# Altium integrated library Linear Technology Power Management Hot Swap Controllers.IntLib: 992 symbols (part 27 of 93)
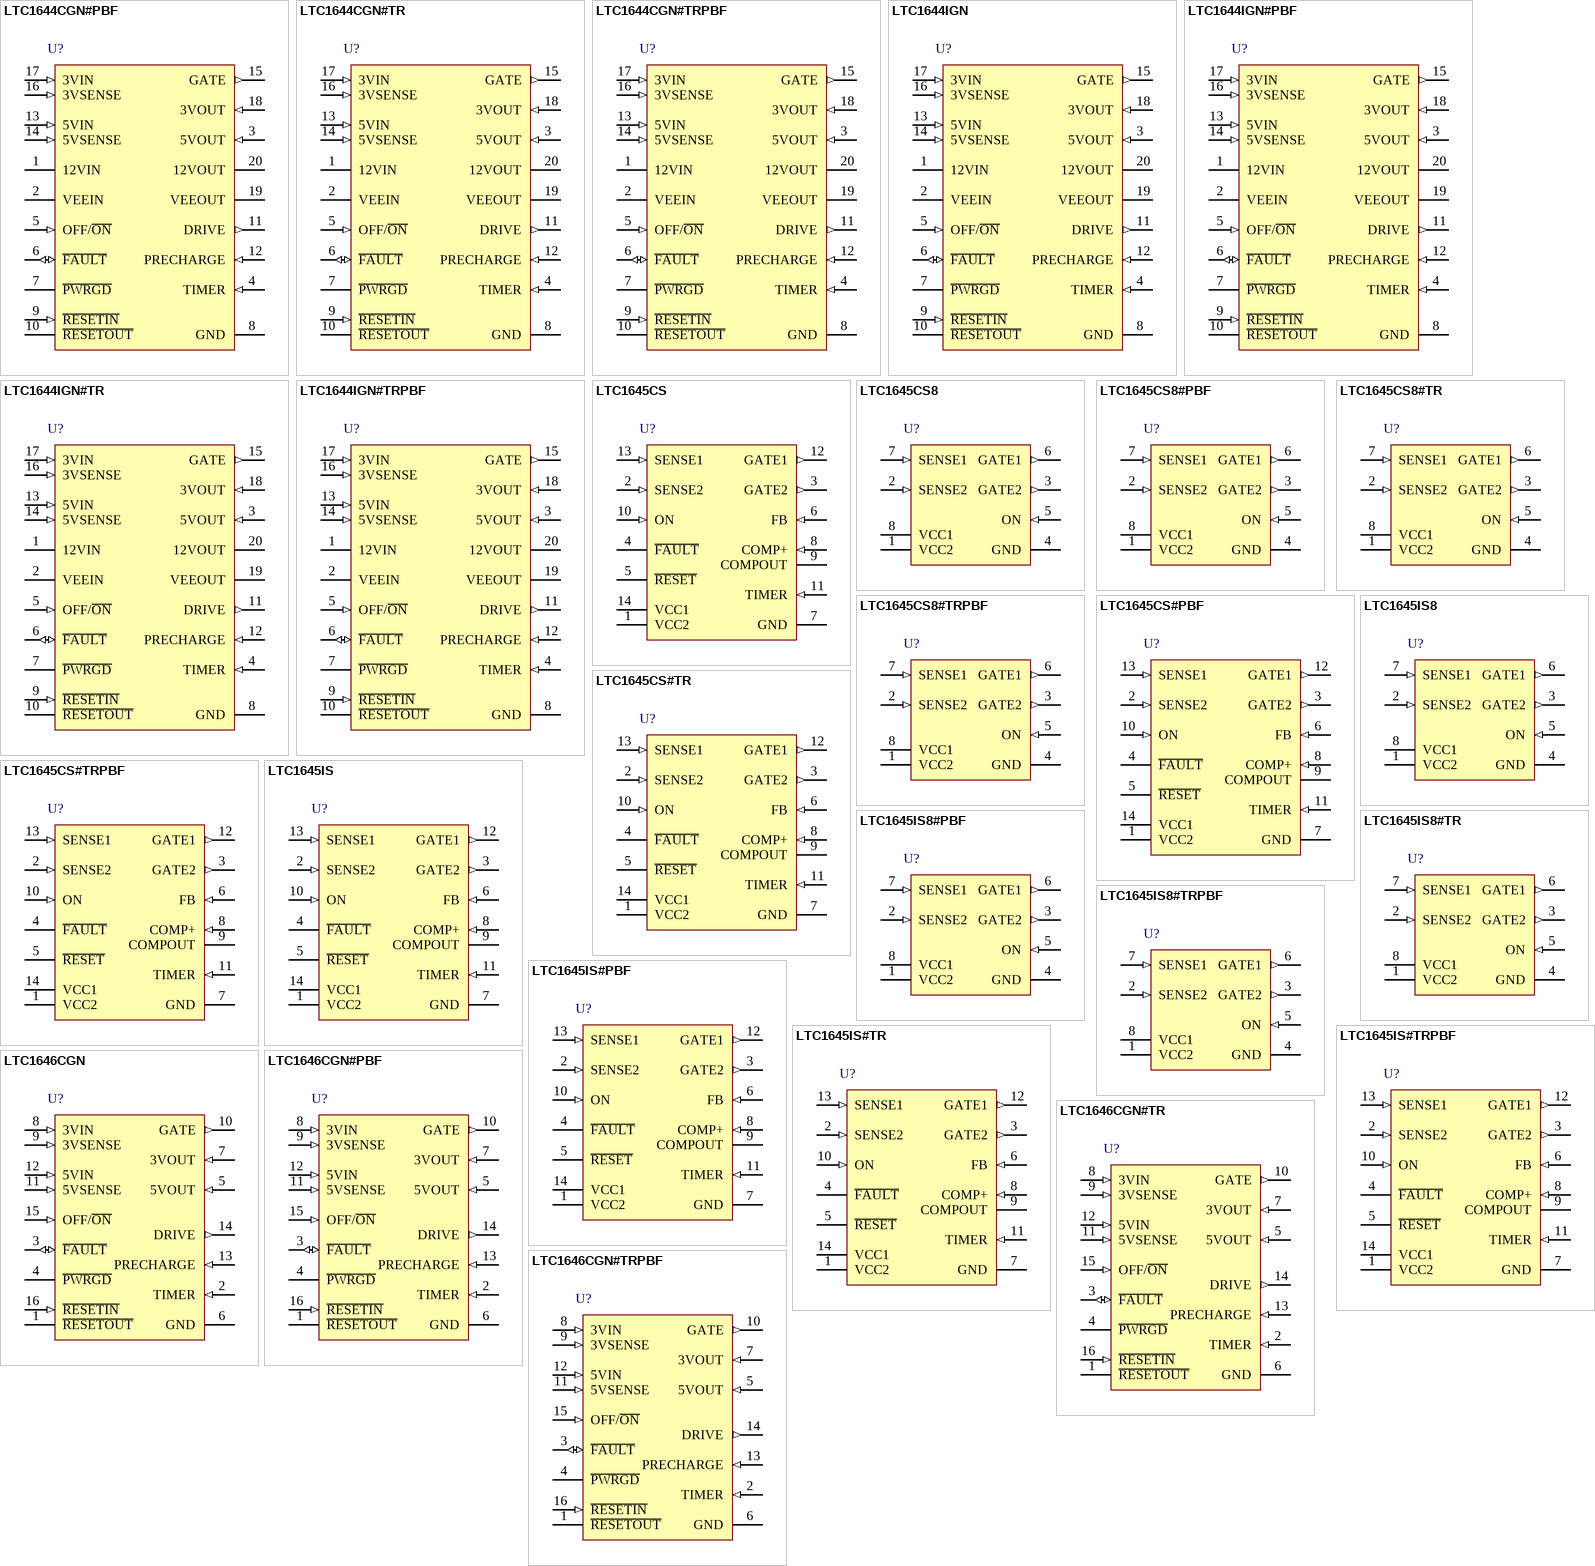
[diagram p63: symbols LTC1644CGN#PBF to LTC1646CGN#TRPBF]

## LTC1646CGN#TR
designator U?
CompactPCI Dual Hot Swap Controller, 2.7 to 7 V Vin, 16-pin SOP (GN-16), 0 to 70 degC, Tape and Reel; Manufacturer: Linear Technology; PartNumber: LTC1646CGN#TR; Active Limiting: yes; Circuit Breaker Accuracy(%): 16; Circuit Breaker Threshold: 56 mV; Circuit Breakers(#): 2; Extended Temp: C, I; Fast Comparator: no; In-Rush Current: Active; DatasheetVersion: Rev. A; PackageVersion: Rev. B, 03/2012; PackageReference: GN-16; PackageDescription: 16-Pin Plastic SSOP, Body 4.9 x 3.9 mm, Pitch 0.635 mm; Supplier 1: Digi-Key; Supplier Part Number 1: LTC1646CGNTR-ND; Fault: yes; Foldback: yes; Packing: Tape and Reel; Power Good: yes; Reset: no; RoHS: FALSE; Vin Range: 2.7 to 7 V; Mounting Technology: Surface Mount; ComponentLink1Description: Manufacturer URL; ComponentLink1URL: http://www.linear.com/; ComponentLink2Description: Datasheet; ComponentLink2URL: http://cds.linear.com/docs/en/datasheet/1646fa.pdf; ComponentLink3Description: Package Specification; ComponentLink3URL: http://cds.linear.com/docs/en/packaging/05081641_B_GN16.pdf
footprint LT-GN-16_N (SOP, 16-Leads, Body 5x4mm, Pitch 0.635mm, IPC Medium Density)
footprint LT-GN-16_L (SOP, 16-Leads, Body 5x4mm, Pitch 0.635mm, IPC High Density)
footprint LT-GN-16_M (SOP, 16-Leads, Body 5x4mm, Pitch 0.635mm, IPC Low Density)
pins: 1 ~{RESETOUT} (oc) "Open Drain Digital Output. Connect the CPCI LOCAL_PCI_RST# signal to the R\E\S\E\T\O\U\T\ pin. R\E\S\E\T\O\U\T\ is the logical combination of R\E\S\E\T\I\N\ and P\W\R\G\D\ (see Table 4).", 2 TIMER (in) "Current Fault Inhibit Timing Input. Connect a capacitor from TIMER to GND. With the chip turned off, the TIMER pin is internally held at GND. When the chip is turned on, a 5uA pull-up current source is connected to TIMER. (See Datasheet)", 3 ~{FAULT} (io) "Open Drain Digital I/O. F\A\U\L\T\ is pulled low when a current limit fault is detected. Faults are ignored while the voltage at the TIMER pin is less than 1.25V. Once the TIMER cycle is complete, F\A\U\L\T\ will pull low (See Datasheet)", 4 ~{PWRGD} (oc) "Open Drain Power Good Digital Output. Connect the CPCI HEALTHY# signal to the P\W\R\G\D\ pin. P\W\R\G\D\ remains low while V3VOUT >= 2.9V and V5VOUT >= 4.65V. When either of the supplies falls below its power good threshold (See Datasheet)", 5 5VOUT (in) "5V Output Sense. The P\W\R\G\D\ pin will not pull low until the 5VOUT pin voltage exceeds 4.65V. If no 5V input supply is available, tie the 5VOUT pin to the 3VOUT pin in order to disable the 5VOUT power good function.", 6 GND (power) "Chip Ground", 7 3VOUT (in) "3.3V Output Sense. The P\W\R\G\D\ pin will not pull low until the 3VOUT  pin voltage exceeds 2.90V. If no 3.3V input supply is available, tie the 3VOUT  pin to the 5VOUT  pin.", 8 3VIN (in) "3.3V Supply Sense Input. An undervoltage lockout circuit prevents the switches from turning on when the voltage at the 3VIN pin is less than 2.5V. If no 3.3V input supply is available, connect a diode between 5VIN and 3VIN (See Datasheet)", 9 3VSENSE (in) "3.3V Current Limit Set. With a sense resistor placed in the supply path between 3VIN and 3VSENSE , the GATE pin voltage will be adjusted to maintain a constant voltage across the sense resistor and a constant current through (See Datasheet)", 10 GATE (out) "High Side Gate Drive for the External 3.3V and 5V N-Channel pass transistors. Requires an external series RC network for the current limit loop compensation and setting the minimum ramp-up rate. During power-up, the slope of (See Datasheet)", 11 5VSENSE (in) "5V Current Limit Set. With a sense resistor placed in the supply path between 5VIN and 5VSENSE , the GATE pin voltage will be adjusted to maintain a constant voltage across the sense resistor and a constant current through (See Datasheet)", 12 5VIN (in) "5V Supply Sense Input. An undervoltage lockout circuit prevents the GATE pin voltage from ramping up when the voltage at the 5VIN pin is less than 2.5V. If no 5V input supply is available, tie the 5VIN pin to the 3VIN pin.", 13 PRECHARGE (in) "Precharge Monitor Input. An onchip error amplifier with a 1V reference servos the DRIVE pin voltage to keep the precharge node at 1V. If the precharge function is not being used, tie the PRECHARGE pin to GND.", 14 DRIVE (out) "Precharge Base Drive Output. Provides base drive for an external NPN emitter-follower which in turn biases the PRECHARGE node. If the precharge function is not being used, allow the DRIVE pin to float.", 15 OFF/~{ON} (in) "Digital Input. Connect the CPCI BD_SEL# signal to the OFF/O\N\ pin. When the OFF/O\N\ pin is pulled low, the GATE pin is pulled high by a 13uA current source. When the OFF/O\N\ pin is pulled high the GATE pin will be pulled (See Datasheet)", 16 ~{RESETIN} (in) "Digital Input. Connect the CPCI PCI_RST# signal to the R\E\S\E\T\I\N\ pin. Pulling R\E\S\E\T\I\N\ low will cause the R\E\S\E\T\O\U\T\ pin to pull low."

## LTC1646CGN#TRPBF
designator U?
CompactPCI Dual Hot Swap Controller, 2.7 to 7 V Vin, 16-pin SOP (GN-16), 0 to 70 degC, Pb-Free, Tape and Reel; Manufacturer: Linear Technology; PartNumber: LTC1646CGN#TRPBF; Active Limiting: yes; Circuit Breaker Accuracy(%): 16; Circuit Breaker Threshold: 56 mV; Circuit Breakers(#): 2; Extended Temp: C, I; Fast Comparator: no; In-Rush Current: Active; DatasheetVersion: Rev. A; PackageVersion: Rev. B, 03/2012; PackageReference: GN-16; PackageDescription: 16-Pin Plastic SSOP, Body 4.9 x 3.9 mm, Pitch 0.635 mm; Supplier 1: Digi-Key; Supplier Part Number 1: LTC1646CGN#TRPBF-ND; Fault: yes; Foldback: yes; Packing: Tape and Reel; Power Good: yes; Reset: no; RoHS: TRUE; Vin Range: 2.7 to 7 V; Mounting Technology: Surface Mount; ComponentLink1Description: Manufacturer URL; ComponentLink1URL: http://www.linear.com/; ComponentLink2Description: Datasheet; ComponentLink2URL: http://cds.linear.com/docs/en/datasheet/1646fa.pdf; ComponentLink3Description: Package Specification; ComponentLink3URL: http://cds.linear.com/docs/en/packaging/05081641_B_GN16.pdf
footprint LT-GN-16_N (SOP, 16-Leads, Body 5x4mm, Pitch 0.635mm, IPC Medium Density)
footprint LT-GN-16_L (SOP, 16-Leads, Body 5x4mm, Pitch 0.635mm, IPC High Density)
footprint LT-GN-16_M (SOP, 16-Leads, Body 5x4mm, Pitch 0.635mm, IPC Low Density)
pins: 1 ~{RESETOUT} (oc) "Open Drain Digital Output. Connect the CPCI LOCAL_PCI_RST# signal to the R\E\S\E\T\O\U\T\ pin. R\E\S\E\T\O\U\T\ is the logical combination of R\E\S\E\T\I\N\ and P\W\R\G\D\ (see Table 4).", 2 TIMER (in) "Current Fault Inhibit Timing Input. Connect a capacitor from TIMER to GND. With the chip turned off, the TIMER pin is internally held at GND. When the chip is turned on, a 5uA pull-up current source is connected to TIMER. (See Datasheet)", 3 ~{FAULT} (io) "Open Drain Digital I/O. F\A\U\L\T\ is pulled low when a current limit fault is detected. Faults are ignored while the voltage at the TIMER pin is less than 1.25V. Once the TIMER cycle is complete, F\A\U\L\T\ will pull low (See Datasheet)", 4 ~{PWRGD} (oc) "Open Drain Power Good Digital Output. Connect the CPCI HEALTHY# signal to the P\W\R\G\D\ pin. P\W\R\G\D\ remains low while V3VOUT >= 2.9V and V5VOUT >= 4.65V. When either of the supplies falls below its power good threshold (See Datasheet)", 5 5VOUT (in) "5V Output Sense. The P\W\R\G\D\ pin will not pull low until the 5VOUT pin voltage exceeds 4.65V. If no 5V input supply is available, tie the 5VOUT pin to the 3VOUT pin in order to disable the 5VOUT power good function.", 6 GND (power) "Chip Ground", 7 3VOUT (in) "3.3V Output Sense. The P\W\R\G\D\ pin will not pull low until the 3VOUT  pin voltage exceeds 2.90V. If no 3.3V input supply is available, tie the 3VOUT  pin to the 5VOUT  pin.", 8 3VIN (in) "3.3V Supply Sense Input. An undervoltage lockout circuit prevents the switches from turning on when the voltage at the 3VIN pin is less than 2.5V. If no 3.3V input supply is available, connect a diode between 5VIN and 3VIN (See Datasheet)", 9 3VSENSE (in) "3.3V Current Limit Set. With a sense resistor placed in the supply path between 3VIN and 3VSENSE , the GATE pin voltage will be adjusted to maintain a constant voltage across the sense resistor and a constant current through (See Datasheet)", 10 GATE (out) "High Side Gate Drive for the External 3.3V and 5V N-Channel pass transistors. Requires an external series RC network for the current limit loop compensation and setting the minimum ramp-up rate. During power-up, the slope of (See Datasheet)", 11 5VSENSE (in) "5V Current Limit Set. With a sense resistor placed in the supply path between 5VIN and 5VSENSE , the GATE pin voltage will be adjusted to maintain a constant voltage across the sense resistor and a constant current through (See Datasheet)", 12 5VIN (in) "5V Supply Sense Input. An undervoltage lockout circuit prevents the GATE pin voltage from ramping up when the voltage at the 5VIN pin is less than 2.5V. If no 5V input supply is available, tie the 5VIN pin to the 3VIN pin.", 13 PRECHARGE (in) "Precharge Monitor Input. An onchip error amplifier with a 1V reference servos the DRIVE pin voltage to keep the precharge node at 1V. If the precharge function is not being used, tie the PRECHARGE pin to GND.", 14 DRIVE (out) "Precharge Base Drive Output. Provides base drive for an external NPN emitter-follower which in turn biases the PRECHARGE node. If the precharge function is not being used, allow the DRIVE pin to float.", 15 OFF/~{ON} (in) "Digital Input. Connect the CPCI BD_SEL# signal to the OFF/O\N\ pin. When the OFF/O\N\ pin is pulled low, the GATE pin is pulled high by a 13uA current source. When the OFF/O\N\ pin is pulled high the GATE pin will be pulled (See Datasheet)", 16 ~{RESETIN} (in) "Digital Input. Connect the CPCI PCI_RST# signal to the R\E\S\E\T\I\N\ pin. Pulling R\E\S\E\T\I\N\ low will cause the R\E\S\E\T\O\U\T\ pin to pull low."

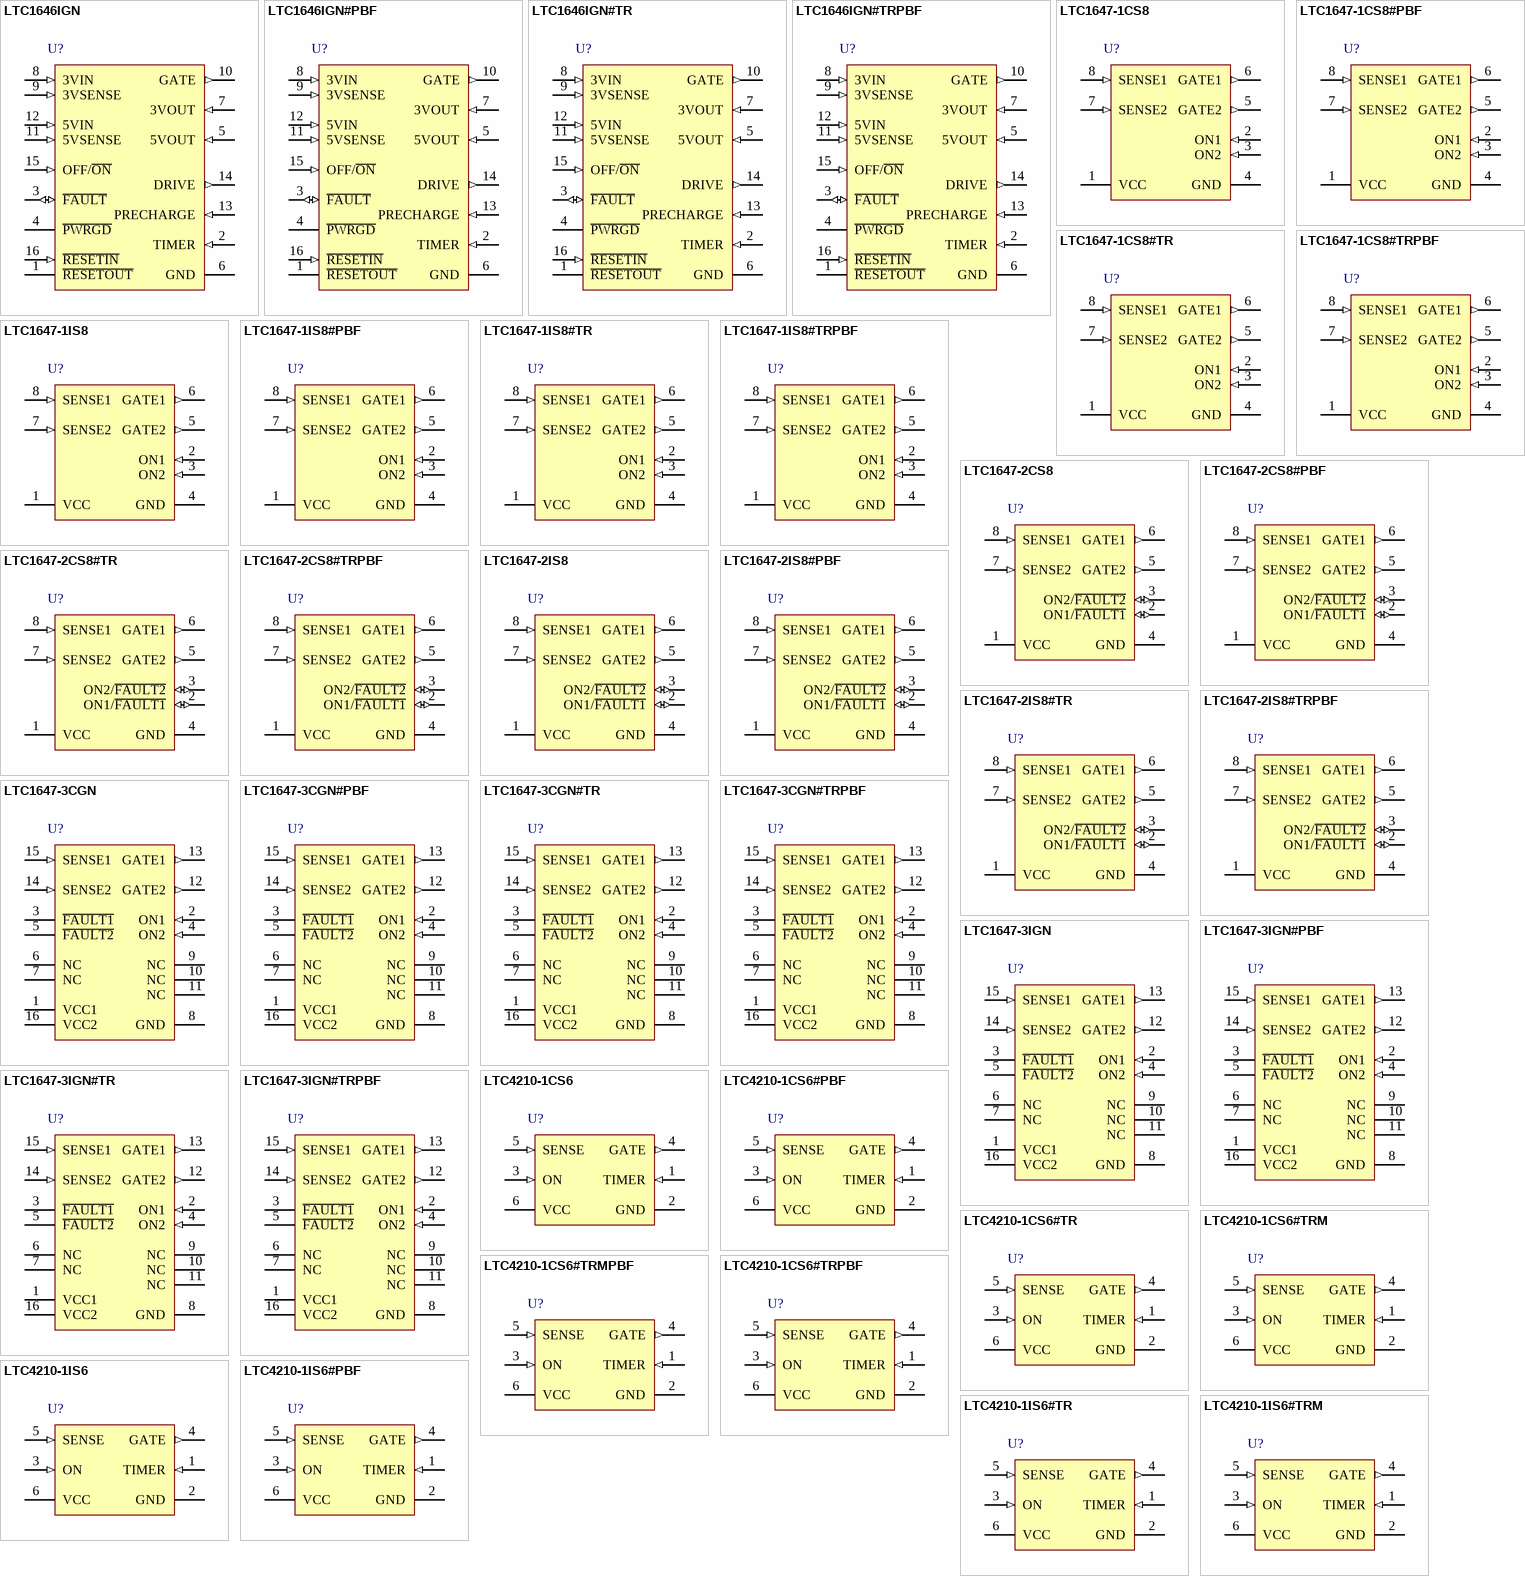
[diagram p11: symbols LTC1646IGN to LTC4210-1IS6#TRM]

## LTC1646IGN
designator U?
CompactPCI Dual Hot Swap Controller, 2.7 to 7 V Vin, 16-pin SOP (GN-16), -40 to 85 degC; Manufacturer: Linear Technology; PartNumber: LTC1646IGN; Active Limiting: yes; Circuit Breaker Accuracy(%): 16; Circuit Breaker Threshold: 56 mV; Circuit Breakers(#): 2; Extended Temp: C, I; Fast Comparator: no; In-Rush Current: Active; DatasheetVersion: Rev. A; PackageVersion: Rev. B, 03/2012; PackageReference: GN-16; PackageDescription: 16-Pin Plastic SSOP, Body 4.9 x 3.9 mm, Pitch 0.635 mm; Supplier 1: Digi-Key; Supplier Part Number 1: LTC1646IGN-ND; Supplier 2: Newark; Supplier Part Number 2: 56M2836; Fault: yes; Foldback: yes; Power Good: yes; Reset: no; RoHS: FALSE; Vin Range: 2.7 to 7 V; Mounting Technology: Surface Mount; ComponentLink1Description: Manufacturer URL; ComponentLink1URL: http://www.linear.com/; ComponentLink2Description: Datasheet; ComponentLink2URL: http://cds.linear.com/docs/en/datasheet/1646fa.pdf; ComponentLink3Description: Package Specification; ComponentLink3URL: http://cds.linear.com/docs/en/packaging/05081641_B_GN16.pdf
footprint LT-GN-16_N (SOP, 16-Leads, Body 5x4mm, Pitch 0.635mm, IPC Medium Density)
footprint LT-GN-16_L (SOP, 16-Leads, Body 5x4mm, Pitch 0.635mm, IPC High Density)
footprint LT-GN-16_M (SOP, 16-Leads, Body 5x4mm, Pitch 0.635mm, IPC Low Density)
pins: 1 ~{RESETOUT} (oc) "Open Drain Digital Output. Connect the CPCI LOCAL_PCI_RST# signal to the R\E\S\E\T\O\U\T\ pin. R\E\S\E\T\O\U\T\ is the logical combination of R\E\S\E\T\I\N\ and P\W\R\G\D\ (see Table 4).", 2 TIMER (in) "Current Fault Inhibit Timing Input. Connect a capacitor from TIMER to GND. With the chip turned off, the TIMER pin is internally held at GND. When the chip is turned on, a 5uA pull-up current source is connected to TIMER. (See Datasheet)", 3 ~{FAULT} (io) "Open Drain Digital I/O. F\A\U\L\T\ is pulled low when a current limit fault is detected. Faults are ignored while the voltage at the TIMER pin is less than 1.25V. Once the TIMER cycle is complete, F\A\U\L\T\ will pull low (See Datasheet)", 4 ~{PWRGD} (oc) "Open Drain Power Good Digital Output. Connect the CPCI HEALTHY# signal to the P\W\R\G\D\ pin. P\W\R\G\D\ remains low while V3VOUT >= 2.9V and V5VOUT >= 4.65V. When either of the supplies falls below its power good threshold (See Datasheet)", 5 5VOUT (in) "5V Output Sense. The P\W\R\G\D\ pin will not pull low until the 5VOUT pin voltage exceeds 4.65V. If no 5V input supply is available, tie the 5VOUT pin to the 3VOUT pin in order to disable the 5VOUT power good function.", 6 GND (power) "Chip Ground", 7 3VOUT (in) "3.3V Output Sense. The P\W\R\G\D\ pin will not pull low until the 3VOUT  pin voltage exceeds 2.90V. If no 3.3V input supply is available, tie the 3VOUT  pin to the 5VOUT  pin.", 8 3VIN (in) "3.3V Supply Sense Input. An undervoltage lockout circuit prevents the switches from turning on when the voltage at the 3VIN pin is less than 2.5V. If no 3.3V input supply is available, connect a diode between 5VIN and 3VIN (See Datasheet)", 9 3VSENSE (in) "3.3V Current Limit Set. With a sense resistor placed in the supply path between 3VIN and 3VSENSE , the GATE pin voltage will be adjusted to maintain a constant voltage across the sense resistor and a constant current through (See Datasheet)", 10 GATE (out) "High Side Gate Drive for the External 3.3V and 5V N-Channel pass transistors. Requires an external series RC network for the current limit loop compensation and setting the minimum ramp-up rate. During power-up, the slope of (See Datasheet)", 11 5VSENSE (in) "5V Current Limit Set. With a sense resistor placed in the supply path between 5VIN and 5VSENSE , the GATE pin voltage will be adjusted to maintain a constant voltage across the sense resistor and a constant current through (See Datasheet)", 12 5VIN (in) "5V Supply Sense Input. An undervoltage lockout circuit prevents the GATE pin voltage from ramping up when the voltage at the 5VIN pin is less than 2.5V. If no 5V input supply is available, tie the 5VIN pin to the 3VIN pin.", 13 PRECHARGE (in) "Precharge Monitor Input. An onchip error amplifier with a 1V reference servos the DRIVE pin voltage to keep the precharge node at 1V. If the precharge function is not being used, tie the PRECHARGE pin to GND.", 14 DRIVE (out) "Precharge Base Drive Output. Provides base drive for an external NPN emitter-follower which in turn biases the PRECHARGE node. If the precharge function is not being used, allow the DRIVE pin to float.", 15 OFF/~{ON} (in) "Digital Input. Connect the CPCI BD_SEL# signal to the OFF/O\N\ pin. When the OFF/O\N\ pin is pulled low, the GATE pin is pulled high by a 13uA current source. When the OFF/O\N\ pin is pulled high the GATE pin will be pulled (See Datasheet)", 16 ~{RESETIN} (in) "Digital Input. Connect the CPCI PCI_RST# signal to the R\E\S\E\T\I\N\ pin. Pulling R\E\S\E\T\I\N\ low will cause the R\E\S\E\T\O\U\T\ pin to pull low."

## LTC1646IGN#PBF
designator U?
CompactPCI Dual Hot Swap Controller, 2.7 to 7 V Vin, 16-pin SOP (GN-16), -40 to 85 degC, Pb-Free; Manufacturer: Linear Technology; PartNumber: LTC1646IGN#PBF; Active Limiting: yes; Circuit Breaker Accuracy(%): 16; Circuit Breaker Threshold: 56 mV; Circuit Breakers(#): 2; Extended Temp: C, I; Fast Comparator: no; In-Rush Current: Active; DatasheetVersion: Rev. A; PackageVersion: Rev. B, 03/2012; PackageReference: GN-16; PackageDescription: 16-Pin Plastic SSOP, Body 4.9 x 3.9 mm, Pitch 0.635 mm; Supplier 1: Digi-Key; Supplier Part Number 1: LTC1646IGN#PBF-ND; Supplier 2: Farnell; Supplier Part Number 2: 2295320; Fault: yes; Foldback: yes; Power Good: yes; Reset: no; RoHS: TRUE; Vin Range: 2.7 to 7 V; Mounting Technology: Surface Mount; ComponentLink1Description: Manufacturer URL; ComponentLink1URL: http://www.linear.com/; ComponentLink2Description: Datasheet; ComponentLink2URL: http://cds.linear.com/docs/en/datasheet/1646fa.pdf; ComponentLink3Description: Package Specification; ComponentLink3URL: http://cds.linear.com/docs/en/packaging/05081641_B_GN16.pdf
footprint LT-GN-16_N (SOP, 16-Leads, Body 5x4mm, Pitch 0.635mm, IPC Medium Density)
footprint LT-GN-16_L (SOP, 16-Leads, Body 5x4mm, Pitch 0.635mm, IPC High Density)
footprint LT-GN-16_M (SOP, 16-Leads, Body 5x4mm, Pitch 0.635mm, IPC Low Density)
pins: 1 ~{RESETOUT} (oc) "Open Drain Digital Output. Connect the CPCI LOCAL_PCI_RST# signal to the R\E\S\E\T\O\U\T\ pin. R\E\S\E\T\O\U\T\ is the logical combination of R\E\S\E\T\I\N\ and P\W\R\G\D\ (see Table 4).", 2 TIMER (in) "Current Fault Inhibit Timing Input. Connect a capacitor from TIMER to GND. With the chip turned off, the TIMER pin is internally held at GND. When the chip is turned on, a 5uA pull-up current source is connected to TIMER. (See Datasheet)", 3 ~{FAULT} (io) "Open Drain Digital I/O. F\A\U\L\T\ is pulled low when a current limit fault is detected. Faults are ignored while the voltage at the TIMER pin is less than 1.25V. Once the TIMER cycle is complete, F\A\U\L\T\ will pull low (See Datasheet)", 4 ~{PWRGD} (oc) "Open Drain Power Good Digital Output. Connect the CPCI HEALTHY# signal to the P\W\R\G\D\ pin. P\W\R\G\D\ remains low while V3VOUT >= 2.9V and V5VOUT >= 4.65V. When either of the supplies falls below its power good threshold (See Datasheet)", 5 5VOUT (in) "5V Output Sense. The P\W\R\G\D\ pin will not pull low until the 5VOUT pin voltage exceeds 4.65V. If no 5V input supply is available, tie the 5VOUT pin to the 3VOUT pin in order to disable the 5VOUT power good function.", 6 GND (power) "Chip Ground", 7 3VOUT (in) "3.3V Output Sense. The P\W\R\G\D\ pin will not pull low until the 3VOUT  pin voltage exceeds 2.90V. If no 3.3V input supply is available, tie the 3VOUT  pin to the 5VOUT  pin.", 8 3VIN (in) "3.3V Supply Sense Input. An undervoltage lockout circuit prevents the switches from turning on when the voltage at the 3VIN pin is less than 2.5V. If no 3.3V input supply is available, connect a diode between 5VIN and 3VIN (See Datasheet)", 9 3VSENSE (in) "3.3V Current Limit Set. With a sense resistor placed in the supply path between 3VIN and 3VSENSE , the GATE pin voltage will be adjusted to maintain a constant voltage across the sense resistor and a constant current through (See Datasheet)", 10 GATE (out) "High Side Gate Drive for the External 3.3V and 5V N-Channel pass transistors. Requires an external series RC network for the current limit loop compensation and setting the minimum ramp-up rate. During power-up, the slope of (See Datasheet)", 11 5VSENSE (in) "5V Current Limit Set. With a sense resistor placed in the supply path between 5VIN and 5VSENSE , the GATE pin voltage will be adjusted to maintain a constant voltage across the sense resistor and a constant current through (See Datasheet)", 12 5VIN (in) "5V Supply Sense Input. An undervoltage lockout circuit prevents the GATE pin voltage from ramping up when the voltage at the 5VIN pin is less than 2.5V. If no 5V input supply is available, tie the 5VIN pin to the 3VIN pin.", 13 PRECHARGE (in) "Precharge Monitor Input. An onchip error amplifier with a 1V reference servos the DRIVE pin voltage to keep the precharge node at 1V. If the precharge function is not being used, tie the PRECHARGE pin to GND.", 14 DRIVE (out) "Precharge Base Drive Output. Provides base drive for an external NPN emitter-follower which in turn biases the PRECHARGE node. If the precharge function is not being used, allow the DRIVE pin to float.", 15 OFF/~{ON} (in) "Digital Input. Connect the CPCI BD_SEL# signal to the OFF/O\N\ pin. When the OFF/O\N\ pin is pulled low, the GATE pin is pulled high by a 13uA current source. When the OFF/O\N\ pin is pulled high the GATE pin will be pulled (See Datasheet)", 16 ~{RESETIN} (in) "Digital Input. Connect the CPCI PCI_RST# signal to the R\E\S\E\T\I\N\ pin. Pulling R\E\S\E\T\I\N\ low will cause the R\E\S\E\T\O\U\T\ pin to pull low."

## LTC1646IGN#TR
designator U?
CompactPCI Dual Hot Swap Controller, 2.7 to 7 V Vin, 16-pin SOP (GN-16), -40 to 85 degC, Tape and Reel; Manufacturer: Linear Technology; PartNumber: LTC1646IGN#TR; Active Limiting: yes; Circuit Breaker Accuracy(%): 16; Circuit Breaker Threshold: 56 mV; Circuit Breakers(#): 2; Extended Temp: C, I; Fast Comparator: no; In-Rush Current: Active; DatasheetVersion: Rev. A; PackageVersion: Rev. B, 03/2012; PackageReference: GN-16; PackageDescription: 16-Pin Plastic SSOP, Body 4.9 x 3.9 mm, Pitch 0.635 mm; Supplier 1: Digi-Key; Supplier Part Number 1: LTC1646IGNTR-ND; Supplier 2: Newark; Supplier Part Number 2: 56M2838; Fault: yes; Foldback: yes; Packing: Tape and Reel; Power Good: yes; Reset: no; RoHS: FALSE; Vin Range: 2.7 to 7 V; Mounting Technology: Surface Mount; ComponentLink1Description: Manufacturer URL; ComponentLink1URL: http://www.linear.com/; ComponentLink2Description: Datasheet; ComponentLink2URL: http://cds.linear.com/docs/en/datasheet/1646fa.pdf; ComponentLink3Description: Package Specification; ComponentLink3URL: http://cds.linear.com/docs/en/packaging/05081641_B_GN16.pdf
footprint LT-GN-16_N (SOP, 16-Leads, Body 5x4mm, Pitch 0.635mm, IPC Medium Density)
footprint LT-GN-16_L (SOP, 16-Leads, Body 5x4mm, Pitch 0.635mm, IPC High Density)
footprint LT-GN-16_M (SOP, 16-Leads, Body 5x4mm, Pitch 0.635mm, IPC Low Density)
pins: 1 ~{RESETOUT} (oc) "Open Drain Digital Output. Connect the CPCI LOCAL_PCI_RST# signal to the R\E\S\E\T\O\U\T\ pin. R\E\S\E\T\O\U\T\ is the logical combination of R\E\S\E\T\I\N\ and P\W\R\G\D\ (see Table 4).", 2 TIMER (in) "Current Fault Inhibit Timing Input. Connect a capacitor from TIMER to GND. With the chip turned off, the TIMER pin is internally held at GND. When the chip is turned on, a 5uA pull-up current source is connected to TIMER. (See Datasheet)", 3 ~{FAULT} (io) "Open Drain Digital I/O. F\A\U\L\T\ is pulled low when a current limit fault is detected. Faults are ignored while the voltage at the TIMER pin is less than 1.25V. Once the TIMER cycle is complete, F\A\U\L\T\ will pull low (See Datasheet)", 4 ~{PWRGD} (oc) "Open Drain Power Good Digital Output. Connect the CPCI HEALTHY# signal to the P\W\R\G\D\ pin. P\W\R\G\D\ remains low while V3VOUT >= 2.9V and V5VOUT >= 4.65V. When either of the supplies falls below its power good threshold (See Datasheet)", 5 5VOUT (in) "5V Output Sense. The P\W\R\G\D\ pin will not pull low until the 5VOUT pin voltage exceeds 4.65V. If no 5V input supply is available, tie the 5VOUT pin to the 3VOUT pin in order to disable the 5VOUT power good function.", 6 GND (power) "Chip Ground", 7 3VOUT (in) "3.3V Output Sense. The P\W\R\G\D\ pin will not pull low until the 3VOUT  pin voltage exceeds 2.90V. If no 3.3V input supply is available, tie the 3VOUT  pin to the 5VOUT  pin.", 8 3VIN (in) "3.3V Supply Sense Input. An undervoltage lockout circuit prevents the switches from turning on when the voltage at the 3VIN pin is less than 2.5V. If no 3.3V input supply is available, connect a diode between 5VIN and 3VIN (See Datasheet)", 9 3VSENSE (in) "3.3V Current Limit Set. With a sense resistor placed in the supply path between 3VIN and 3VSENSE , the GATE pin voltage will be adjusted to maintain a constant voltage across the sense resistor and a constant current through (See Datasheet)", 10 GATE (out) "High Side Gate Drive for the External 3.3V and 5V N-Channel pass transistors. Requires an external series RC network for the current limit loop compensation and setting the minimum ramp-up rate. During power-up, the slope of (See Datasheet)", 11 5VSENSE (in) "5V Current Limit Set. With a sense resistor placed in the supply path between 5VIN and 5VSENSE , the GATE pin voltage will be adjusted to maintain a constant voltage across the sense resistor and a constant current through (See Datasheet)", 12 5VIN (in) "5V Supply Sense Input. An undervoltage lockout circuit prevents the GATE pin voltage from ramping up when the voltage at the 5VIN pin is less than 2.5V. If no 5V input supply is available, tie the 5VIN pin to the 3VIN pin.", 13 PRECHARGE (in) "Precharge Monitor Input. An onchip error amplifier with a 1V reference servos the DRIVE pin voltage to keep the precharge node at 1V. If the precharge function is not being used, tie the PRECHARGE pin to GND.", 14 DRIVE (out) "Precharge Base Drive Output. Provides base drive for an external NPN emitter-follower which in turn biases the PRECHARGE node. If the precharge function is not being used, allow the DRIVE pin to float.", 15 OFF/~{ON} (in) "Digital Input. Connect the CPCI BD_SEL# signal to the OFF/O\N\ pin. When the OFF/O\N\ pin is pulled low, the GATE pin is pulled high by a 13uA current source. When the OFF/O\N\ pin is pulled high the GATE pin will be pulled (See Datasheet)", 16 ~{RESETIN} (in) "Digital Input. Connect the CPCI PCI_RST# signal to the R\E\S\E\T\I\N\ pin. Pulling R\E\S\E\T\I\N\ low will cause the R\E\S\E\T\O\U\T\ pin to pull low."

## LTC1646IGN#TRPBF
designator U?
CompactPCI Dual Hot Swap Controller, 2.7 to 7 V Vin, 16-pin SOP (GN-16), -40 to 85 degC, Pb-Free, Tape and Reel; Manufacturer: Linear Technology; PartNumber: LTC1646IGN#TRPBF; Active Limiting: yes; Circuit Breaker Accuracy(%): 16; Circuit Breaker Threshold: 56 mV; Circuit Breakers(#): 2; Extended Temp: C, I; Fast Comparator: no; In-Rush Current: Active; DatasheetVersion: Rev. A; PackageVersion: Rev. B, 03/2012; PackageReference: GN-16; PackageDescription: 16-Pin Plastic SSOP, Body 4.9 x 3.9 mm, Pitch 0.635 mm; Supplier 1: Digi-Key; Supplier Part Number 1: LTC1646IGN#TRPBF-ND; Fault: yes; Foldback: yes; Packing: Tape and Reel; Power Good: yes; Reset: no; RoHS: TRUE; Vin Range: 2.7 to 7 V; Mounting Technology: Surface Mount; ComponentLink1Description: Manufacturer URL; ComponentLink1URL: http://www.linear.com/; ComponentLink2Description: Datasheet; ComponentLink2URL: http://cds.linear.com/docs/en/datasheet/1646fa.pdf; ComponentLink3Description: Package Specification; ComponentLink3URL: http://cds.linear.com/docs/en/packaging/05081641_B_GN16.pdf
footprint LT-GN-16_N (SOP, 16-Leads, Body 5x4mm, Pitch 0.635mm, IPC Medium Density)
footprint LT-GN-16_L (SOP, 16-Leads, Body 5x4mm, Pitch 0.635mm, IPC High Density)
footprint LT-GN-16_M (SOP, 16-Leads, Body 5x4mm, Pitch 0.635mm, IPC Low Density)
pins: 1 ~{RESETOUT} (oc) "Open Drain Digital Output. Connect the CPCI LOCAL_PCI_RST# signal to the R\E\S\E\T\O\U\T\ pin. R\E\S\E\T\O\U\T\ is the logical combination of R\E\S\E\T\I\N\ and P\W\R\G\D\ (see Table 4).", 2 TIMER (in) "Current Fault Inhibit Timing Input. Connect a capacitor from TIMER to GND. With the chip turned off, the TIMER pin is internally held at GND. When the chip is turned on, a 5uA pull-up current source is connected to TIMER. (See Datasheet)", 3 ~{FAULT} (io) "Open Drain Digital I/O. F\A\U\L\T\ is pulled low when a current limit fault is detected. Faults are ignored while the voltage at the TIMER pin is less than 1.25V. Once the TIMER cycle is complete, F\A\U\L\T\ will pull low (See Datasheet)", 4 ~{PWRGD} (oc) "Open Drain Power Good Digital Output. Connect the CPCI HEALTHY# signal to the P\W\R\G\D\ pin. P\W\R\G\D\ remains low while V3VOUT >= 2.9V and V5VOUT >= 4.65V. When either of the supplies falls below its power good threshold (See Datasheet)", 5 5VOUT (in) "5V Output Sense. The P\W\R\G\D\ pin will not pull low until the 5VOUT pin voltage exceeds 4.65V. If no 5V input supply is available, tie the 5VOUT pin to the 3VOUT pin in order to disable the 5VOUT power good function.", 6 GND (power) "Chip Ground", 7 3VOUT (in) "3.3V Output Sense. The P\W\R\G\D\ pin will not pull low until the 3VOUT  pin voltage exceeds 2.90V. If no 3.3V input supply is available, tie the 3VOUT  pin to the 5VOUT  pin.", 8 3VIN (in) "3.3V Supply Sense Input. An undervoltage lockout circuit prevents the switches from turning on when the voltage at the 3VIN pin is less than 2.5V. If no 3.3V input supply is available, connect a diode between 5VIN and 3VIN (See Datasheet)", 9 3VSENSE (in) "3.3V Current Limit Set. With a sense resistor placed in the supply path between 3VIN and 3VSENSE , the GATE pin voltage will be adjusted to maintain a constant voltage across the sense resistor and a constant current through (See Datasheet)", 10 GATE (out) "High Side Gate Drive for the External 3.3V and 5V N-Channel pass transistors. Requires an external series RC network for the current limit loop compensation and setting the minimum ramp-up rate. During power-up, the slope of (See Datasheet)", 11 5VSENSE (in) "5V Current Limit Set. With a sense resistor placed in the supply path between 5VIN and 5VSENSE , the GATE pin voltage will be adjusted to maintain a constant voltage across the sense resistor and a constant current through (See Datasheet)", 12 5VIN (in) "5V Supply Sense Input. An undervoltage lockout circuit prevents the GATE pin voltage from ramping up when the voltage at the 5VIN pin is less than 2.5V. If no 5V input supply is available, tie the 5VIN pin to the 3VIN pin.", 13 PRECHARGE (in) "Precharge Monitor Input. An onchip error amplifier with a 1V reference servos the DRIVE pin voltage to keep the precharge node at 1V. If the precharge function is not being used, tie the PRECHARGE pin to GND.", 14 DRIVE (out) "Precharge Base Drive Output. Provides base drive for an external NPN emitter-follower which in turn biases the PRECHARGE node. If the precharge function is not being used, allow the DRIVE pin to float.", 15 OFF/~{ON} (in) "Digital Input. Connect the CPCI BD_SEL# signal to the OFF/O\N\ pin. When the OFF/O\N\ pin is pulled low, the GATE pin is pulled high by a 13uA current source. When the OFF/O\N\ pin is pulled high the GATE pin will be pulled (See Datasheet)", 16 ~{RESETIN} (in) "Digital Input. Connect the CPCI PCI_RST# signal to the R\E\S\E\T\I\N\ pin. Pulling R\E\S\E\T\I\N\ low will cause the R\E\S\E\T\O\U\T\ pin to pull low."

## LTC1647-1CS8
designator U?
Dual Hot Swap Controller, 2.7 to 16.5 V Vin, 8-pin SOIC (S8-8), 0 to 70 degC; Manufacturer: Linear Technology; PartNumber: LTC1647-1CS8; Active Limiting: no; Circuit Breaker Accuracy(%): 20; Circuit Breaker Threshold: 50 mV; Circuit Breakers(#): 2; Extended Temp: C, I; Fault: yes; In-Rush Current: Ramp; DatasheetVersion: Rev. A; PackageVersion: Rev. G, 03/2012; PackageReference: S8-8; PackageDescription: 8-Pin Plastic Small Outline (Narrow .150 Inch), Body 4.9 x 3.9 mm, Pitch 1.27 mm; Supplier 1: Digi-Key; Supplier Part Number 1: LTC1647-1CS8-ND; Fast Comparator: no; Foldback: no; Power Good: no; Reset: no; RoHS: FALSE; Vin Range: 2.7 to 16.5 V; Mounting Technology: Surface Mount; ComponentLink1Description: Manufacturer URL; ComponentLink1URL: http://www.linear.com/; ComponentLink2Description: Datasheet; ComponentLink2URL: http://cds.linear.com/docs/en/datasheet/1647fa.pdf; ComponentLink3Description: Package Specification; ComponentLink3URL: http://cds.linear.com/docs/en/packaging/05081610_G_SO8.pdf
footprint LT-S8-8_N (SOIC, 8-Leads, Body 5x4mm, Pitch 1.27mm, IPC Medium Density)
footprint LT-S8-8_L (SOIC, 8-Leads, Body 5x4mm, Pitch 1.27mm, IPC High Density)
footprint LT-S8-8_M (SOIC, 8-Leads, Body 5x4mm, Pitch 1.27mm, IPC Low Density)
pins: 1 VCC (power) "The Common Positive Supply Input for the LTC1647-1. VCC1 and VCC2 are internally connected together.", 2 ON1 (in) "Channel 1 ON Input.", 3 ON2 (in) "Channel 2 ON Input.", 4 GND (power) "Chip Ground", 5 GATE2 (out) "Channel 2 N-channel MOSFET Gate Drive Output.", 6 GATE1 (out) "Channel 1 N-channel MOSFET Gate Drive Output.", 7 SENSE2 (in) "Channel 2 Circuit Breaker Current Sense Input.", 8 SENSE1 (in) "Channel 1 Circuit Breaker Current Sense Input."

## LTC1647-1CS8#PBF
designator U?
Dual Hot Swap Controller, 2.7 to 16.5 V Vin, 8-pin SOIC (S8-8), 0 to 70 degC, Pb-Free; Manufacturer: Linear Technology; PartNumber: LTC1647-1CS8#PBF; Active Limiting: no; Circuit Breaker Accuracy(%): 20; Circuit Breaker Threshold: 50 mV; Circuit Breakers(#): 2; Extended Temp: C, I; Fault: yes; In-Rush Current: Ramp; DatasheetVersion: Rev. A; PackageVersion: Rev. G, 03/2012; PackageReference: S8-8; PackageDescription: 8-Pin Plastic Small Outline (Narrow .150 Inch), Body 4.9 x 3.9 mm, Pitch 1.27 mm; Supplier 1: Digi-Key; Supplier Part Number 1: LTC1647-1CS8#PBF-ND; Supplier 2: Farnell; Supplier Part Number 2: 1273900; Fast Comparator: no; Foldback: no; Power Good: no; Reset: no; RoHS: TRUE; Vin Range: 2.7 to 16.5 V; Mounting Technology: Surface Mount; ComponentLink1Description: Manufacturer URL; ComponentLink1URL: http://www.linear.com/; ComponentLink2Description: Datasheet; ComponentLink2URL: http://cds.linear.com/docs/en/datasheet/1647fa.pdf; ComponentLink3Description: Package Specification; ComponentLink3URL: http://cds.linear.com/docs/en/packaging/05081610_G_SO8.pdf
footprint LT-S8-8_N (SOIC, 8-Leads, Body 5x4mm, Pitch 1.27mm, IPC Medium Density)
footprint LT-S8-8_L (SOIC, 8-Leads, Body 5x4mm, Pitch 1.27mm, IPC High Density)
footprint LT-S8-8_M (SOIC, 8-Leads, Body 5x4mm, Pitch 1.27mm, IPC Low Density)
pins: 1 VCC (power) "The Common Positive Supply Input for the LTC1647-1. VCC1 and VCC2 are internally connected together.", 2 ON1 (in) "Channel 1 ON Input.", 3 ON2 (in) "Channel 2 ON Input.", 4 GND (power) "Chip Ground", 5 GATE2 (out) "Channel 2 N-channel MOSFET Gate Drive Output.", 6 GATE1 (out) "Channel 1 N-channel MOSFET Gate Drive Output.", 7 SENSE2 (in) "Channel 2 Circuit Breaker Current Sense Input.", 8 SENSE1 (in) "Channel 1 Circuit Breaker Current Sense Input."

## LTC1647-1CS8#TR
designator U?
Dual Hot Swap Controller, 2.7 to 16.5 V Vin, 8-pin SOIC (S8-8), 0 to 70 degC, Tape and Reel; Manufacturer: Linear Technology; PartNumber: LTC1647-1CS8#TR; Active Limiting: no; Circuit Breaker Accuracy(%): 20; Circuit Breaker Threshold: 50 mV; Circuit Breakers(#): 2; Extended Temp: C, I; Fault: yes; In-Rush Current: Ramp; DatasheetVersion: Rev. A; PackageVersion: Rev. G, 03/2012; PackageReference: S8-8; PackageDescription: 8-Pin Plastic Small Outline (Narrow .150 Inch), Body 4.9 x 3.9 mm, Pitch 1.27 mm; Supplier 1: Digi-Key; Supplier Part Number 1: LTC1647-1CS8#TR-ND; Fast Comparator: no; Foldback: no; Packing: Tape and Reel; Power Good: no; Reset: no; RoHS: FALSE; Vin Range: 2.7 to 16.5 V; Mounting Technology: Surface Mount; ComponentLink1Description: Manufacturer URL; ComponentLink1URL: http://www.linear.com/; ComponentLink2Description: Datasheet; ComponentLink2URL: http://cds.linear.com/docs/en/datasheet/1647fa.pdf; ComponentLink3Description: Package Specification; ComponentLink3URL: http://cds.linear.com/docs/en/packaging/05081610_G_SO8.pdf
footprint LT-S8-8_N (SOIC, 8-Leads, Body 5x4mm, Pitch 1.27mm, IPC Medium Density)
footprint LT-S8-8_L (SOIC, 8-Leads, Body 5x4mm, Pitch 1.27mm, IPC High Density)
footprint LT-S8-8_M (SOIC, 8-Leads, Body 5x4mm, Pitch 1.27mm, IPC Low Density)
pins: 1 VCC (power) "The Common Positive Supply Input for the LTC1647-1. VCC1 and VCC2 are internally connected together.", 2 ON1 (in) "Channel 1 ON Input.", 3 ON2 (in) "Channel 2 ON Input.", 4 GND (power) "Chip Ground", 5 GATE2 (out) "Channel 2 N-channel MOSFET Gate Drive Output.", 6 GATE1 (out) "Channel 1 N-channel MOSFET Gate Drive Output.", 7 SENSE2 (in) "Channel 2 Circuit Breaker Current Sense Input.", 8 SENSE1 (in) "Channel 1 Circuit Breaker Current Sense Input."

## LTC1647-1CS8#TRPBF
designator U?
Dual Hot Swap Controller, 2.7 to 16.5 V Vin, 8-pin SOIC (S8-8), 0 to 70 degC, Pb-Free, Tape and Reel; Manufacturer: Linear Technology; PartNumber: LTC1647-1CS8#TRPBF; Active Limiting: no; Circuit Breaker Accuracy(%): 20; Circuit Breaker Threshold: 50 mV; Circuit Breakers(#): 2; Extended Temp: C, I; Fault: yes; In-Rush Current: Ramp; DatasheetVersion: Rev. A; PackageVersion: Rev. G, 03/2012; PackageReference: S8-8; PackageDescription: 8-Pin Plastic Small Outline (Narrow .150 Inch), Body 4.9 x 3.9 mm, Pitch 1.27 mm; Supplier 1: Digi-Key; Supplier Part Number 1: LTC1647-1CS8#TRPBF-ND; Fast Comparator: no; Foldback: no; Packing: Tape and Reel; Power Good: no; Reset: no; RoHS: TRUE; Vin Range: 2.7 to 16.5 V; Mounting Technology: Surface Mount; ComponentLink1Description: Manufacturer URL; ComponentLink1URL: http://www.linear.com/; ComponentLink2Description: Datasheet; ComponentLink2URL: http://cds.linear.com/docs/en/datasheet/1647fa.pdf; ComponentLink3Description: Package Specification; ComponentLink3URL: http://cds.linear.com/docs/en/packaging/05081610_G_SO8.pdf
footprint LT-S8-8_N (SOIC, 8-Leads, Body 5x4mm, Pitch 1.27mm, IPC Medium Density)
footprint LT-S8-8_L (SOIC, 8-Leads, Body 5x4mm, Pitch 1.27mm, IPC High Density)
footprint LT-S8-8_M (SOIC, 8-Leads, Body 5x4mm, Pitch 1.27mm, IPC Low Density)
pins: 1 VCC (power) "The Common Positive Supply Input for the LTC1647-1. VCC1 and VCC2 are internally connected together.", 2 ON1 (in) "Channel 1 ON Input.", 3 ON2 (in) "Channel 2 ON Input.", 4 GND (power) "Chip Ground", 5 GATE2 (out) "Channel 2 N-channel MOSFET Gate Drive Output.", 6 GATE1 (out) "Channel 1 N-channel MOSFET Gate Drive Output.", 7 SENSE2 (in) "Channel 2 Circuit Breaker Current Sense Input.", 8 SENSE1 (in) "Channel 1 Circuit Breaker Current Sense Input."

## LTC1647-1IS8
designator U?
Dual Hot Swap Controller, 2.7 to 16.5 V Vin, 8-pin SOIC (S8-8), -40 to 85 degC; Manufacturer: Linear Technology; PartNumber: LTC1647-1IS8; Active Limiting: no; Circuit Breaker Accuracy(%): 20; Circuit Breaker Threshold: 50 mV; Circuit Breakers(#): 2; Extended Temp: C, I; Fault: yes; In-Rush Current: Ramp; DatasheetVersion: Rev. A; PackageVersion: Rev. G, 03/2012; PackageReference: S8-8; PackageDescription: 8-Pin Plastic Small Outline (Narrow .150 Inch), Body 4.9 x 3.9 mm, Pitch 1.27 mm; Supplier 1: Digi-Key; Supplier Part Number 1: LTC1647-1IS8-ND; Fast Comparator: no; Foldback: no; Power Good: no; Reset: no; RoHS: FALSE; Vin Range: 2.7 to 16.5 V; Mounting Technology: Surface Mount; ComponentLink1Description: Manufacturer URL; ComponentLink1URL: http://www.linear.com/; ComponentLink2Description: Datasheet; ComponentLink2URL: http://cds.linear.com/docs/en/datasheet/1647fa.pdf; ComponentLink3Description: Package Specification; ComponentLink3URL: http://cds.linear.com/docs/en/packaging/05081610_G_SO8.pdf
footprint LT-S8-8_N (SOIC, 8-Leads, Body 5x4mm, Pitch 1.27mm, IPC Medium Density)
footprint LT-S8-8_L (SOIC, 8-Leads, Body 5x4mm, Pitch 1.27mm, IPC High Density)
footprint LT-S8-8_M (SOIC, 8-Leads, Body 5x4mm, Pitch 1.27mm, IPC Low Density)
pins: 1 VCC (power) "The Common Positive Supply Input for the LTC1647-1. VCC1 and VCC2 are internally connected together.", 2 ON1 (in) "Channel 1 ON Input.", 3 ON2 (in) "Channel 2 ON Input.", 4 GND (power) "Chip Ground", 5 GATE2 (out) "Channel 2 N-channel MOSFET Gate Drive Output.", 6 GATE1 (out) "Channel 1 N-channel MOSFET Gate Drive Output.", 7 SENSE2 (in) "Channel 2 Circuit Breaker Current Sense Input.", 8 SENSE1 (in) "Channel 1 Circuit Breaker Current Sense Input."

## LTC1647-1IS8#PBF
designator U?
Dual Hot Swap Controller, 2.7 to 16.5 V Vin, 8-pin SOIC (S8-8), -40 to 85 degC, Pb-Free; Manufacturer: Linear Technology; PartNumber: LTC1647-1IS8#PBF; Active Limiting: no; Circuit Breaker Accuracy(%): 20; Circuit Breaker Threshold: 50 mV; Circuit Breakers(#): 2; Extended Temp: C, I; Fault: yes; In-Rush Current: Ramp; DatasheetVersion: Rev. A; PackageVersion: Rev. G, 03/2012; PackageReference: S8-8; PackageDescription: 8-Pin Plastic Small Outline (Narrow .150 Inch), Body 4.9 x 3.9 mm, Pitch 1.27 mm; Supplier 1: Digi-Key; Supplier Part Number 1: LTC1647-1IS8#PBF-ND; Fast Comparator: no; Foldback: no; Power Good: no; Reset: no; RoHS: TRUE; Vin Range: 2.7 to 16.5 V; Mounting Technology: Surface Mount; ComponentLink1Description: Manufacturer URL; ComponentLink1URL: http://www.linear.com/; ComponentLink2Description: Datasheet; ComponentLink2URL: http://cds.linear.com/docs/en/datasheet/1647fa.pdf; ComponentLink3Description: Package Specification; ComponentLink3URL: http://cds.linear.com/docs/en/packaging/05081610_G_SO8.pdf
footprint LT-S8-8_N (SOIC, 8-Leads, Body 5x4mm, Pitch 1.27mm, IPC Medium Density)
footprint LT-S8-8_L (SOIC, 8-Leads, Body 5x4mm, Pitch 1.27mm, IPC High Density)
footprint LT-S8-8_M (SOIC, 8-Leads, Body 5x4mm, Pitch 1.27mm, IPC Low Density)
pins: 1 VCC (power) "The Common Positive Supply Input for the LTC1647-1. VCC1 and VCC2 are internally connected together.", 2 ON1 (in) "Channel 1 ON Input.", 3 ON2 (in) "Channel 2 ON Input.", 4 GND (power) "Chip Ground", 5 GATE2 (out) "Channel 2 N-channel MOSFET Gate Drive Output.", 6 GATE1 (out) "Channel 1 N-channel MOSFET Gate Drive Output.", 7 SENSE2 (in) "Channel 2 Circuit Breaker Current Sense Input.", 8 SENSE1 (in) "Channel 1 Circuit Breaker Current Sense Input."

## LTC1647-1IS8#TR
designator U?
Dual Hot Swap Controller, 2.7 to 16.5 V Vin, 8-pin SOIC (S8-8), -40 to 85 degC, Tape and Reel; Manufacturer: Linear Technology; PartNumber: LTC1647-1IS8#TR; Active Limiting: no; Circuit Breaker Accuracy(%): 20; Circuit Breaker Threshold: 50 mV; Circuit Breakers(#): 2; Extended Temp: C, I; Fault: yes; In-Rush Current: Ramp; DatasheetVersion: Rev. A; PackageVersion: Rev. G, 03/2012; PackageReference: S8-8; PackageDescription: 8-Pin Plastic Small Outline (Narrow .150 Inch), Body 4.9 x 3.9 mm, Pitch 1.27 mm; Supplier 1: Digi-Key; Supplier Part Number 1: LTC1647-1IS8#TR-ND; Fast Comparator: no; Foldback: no; Packing: Tape and Reel; Power Good: no; Reset: no; RoHS: FALSE; Vin Range: 2.7 to 16.5 V; Mounting Technology: Surface Mount; ComponentLink1Description: Manufacturer URL; ComponentLink1URL: http://www.linear.com/; ComponentLink2Description: Datasheet; ComponentLink2URL: http://cds.linear.com/docs/en/datasheet/1647fa.pdf; ComponentLink3Description: Package Specification; ComponentLink3URL: http://cds.linear.com/docs/en/packaging/05081610_G_SO8.pdf
footprint LT-S8-8_N (SOIC, 8-Leads, Body 5x4mm, Pitch 1.27mm, IPC Medium Density)
footprint LT-S8-8_L (SOIC, 8-Leads, Body 5x4mm, Pitch 1.27mm, IPC High Density)
footprint LT-S8-8_M (SOIC, 8-Leads, Body 5x4mm, Pitch 1.27mm, IPC Low Density)
pins: 1 VCC (power) "The Common Positive Supply Input for the LTC1647-1. VCC1 and VCC2 are internally connected together.", 2 ON1 (in) "Channel 1 ON Input.", 3 ON2 (in) "Channel 2 ON Input.", 4 GND (power) "Chip Ground", 5 GATE2 (out) "Channel 2 N-channel MOSFET Gate Drive Output.", 6 GATE1 (out) "Channel 1 N-channel MOSFET Gate Drive Output.", 7 SENSE2 (in) "Channel 2 Circuit Breaker Current Sense Input.", 8 SENSE1 (in) "Channel 1 Circuit Breaker Current Sense Input."

## LTC1647-1IS8#TRPBF
designator U?
Dual Hot Swap Controller, 2.7 to 16.5 V Vin, 8-pin SOIC (S8-8), -40 to 85 degC, Pb-Free, Tape and Reel; Manufacturer: Linear Technology; PartNumber: LTC1647-1IS8#TRPBF; Active Limiting: no; Circuit Breaker Accuracy(%): 20; Circuit Breaker Threshold: 50 mV; Circuit Breakers(#): 2; Extended Temp: C, I; Fault: yes; In-Rush Current: Ramp; DatasheetVersion: Rev. A; PackageVersion: Rev. G, 03/2012; PackageReference: S8-8; PackageDescription: 8-Pin Plastic Small Outline (Narrow .150 Inch), Body 4.9 x 3.9 mm, Pitch 1.27 mm; Supplier 1: Digi-Key; Supplier Part Number 1: LTC1647-1IS8#TRPBF-ND; Fast Comparator: no; Foldback: no; Packing: Tape and Reel; Power Good: no; Reset: no; RoHS: TRUE; Vin Range: 2.7 to 16.5 V; Mounting Technology: Surface Mount; ComponentLink1Description: Manufacturer URL; ComponentLink1URL: http://www.linear.com/; ComponentLink2Description: Datasheet; ComponentLink2URL: http://cds.linear.com/docs/en/datasheet/1647fa.pdf; ComponentLink3Description: Package Specification; ComponentLink3URL: http://cds.linear.com/docs/en/packaging/05081610_G_SO8.pdf
footprint LT-S8-8_N (SOIC, 8-Leads, Body 5x4mm, Pitch 1.27mm, IPC Medium Density)
footprint LT-S8-8_L (SOIC, 8-Leads, Body 5x4mm, Pitch 1.27mm, IPC High Density)
footprint LT-S8-8_M (SOIC, 8-Leads, Body 5x4mm, Pitch 1.27mm, IPC Low Density)
pins: 1 VCC (power) "The Common Positive Supply Input for the LTC1647-1. VCC1 and VCC2 are internally connected together.", 2 ON1 (in) "Channel 1 ON Input.", 3 ON2 (in) "Channel 2 ON Input.", 4 GND (power) "Chip Ground", 5 GATE2 (out) "Channel 2 N-channel MOSFET Gate Drive Output.", 6 GATE1 (out) "Channel 1 N-channel MOSFET Gate Drive Output.", 7 SENSE2 (in) "Channel 2 Circuit Breaker Current Sense Input.", 8 SENSE1 (in) "Channel 1 Circuit Breaker Current Sense Input."

## LTC1647-2CS8
designator U?
Dual Hot Swap Controller, 2.7 to 16.5 V Vin, 8-pin SOIC (S8-8), 0 to 70 degC; Manufacturer: Linear Technology; PartNumber: LTC1647-2CS8; Active Limiting: no; Circuit Breaker Accuracy(%): 20; Circuit Breaker Threshold: 50 mV; Circuit Breakers(#): 2; Extended Temp: C, I; Fault: yes; In-Rush Current: Ramp; DatasheetVersion: Rev. A; PackageVersion: Rev. G, 03/2012; PackageReference: S8-8; PackageDescription: 8-Pin Plastic Small Outline (Narrow .150 Inch), Body 4.9 x 3.9 mm, Pitch 1.27 mm; Supplier 1: Digi-Key; Supplier Part Number 1: LTC1647-2CS8-ND; Fast Comparator: no; Foldback: no; Power Good: no; Reset: no; RoHS: FALSE; Vin Range: 2.7 to 16.5 V; Mounting Technology: Surface Mount; ComponentLink1Description: Manufacturer URL; ComponentLink1URL: http://www.linear.com/; ComponentLink2Description: Datasheet; ComponentLink2URL: http://cds.linear.com/docs/en/datasheet/1647fa.pdf; ComponentLink3Description: Package Specification; ComponentLink3URL: http://cds.linear.com/docs/en/packaging/05081610_G_SO8.pdf
footprint LT-S8-8_N (SOIC, 8-Leads, Body 5x4mm, Pitch 1.27mm, IPC Medium Density)
footprint LT-S8-8_L (SOIC, 8-Leads, Body 5x4mm, Pitch 1.27mm, IPC High Density)
footprint LT-S8-8_M (SOIC, 8-Leads, Body 5x4mm, Pitch 1.27mm, IPC Low Density)
pins: 1 VCC (power) "The Common Positive Supply Input for the LTC1647-2. VCC1 and VCC2 are internally connected together.", 2 ON1/~{FAULT1} (io), 3 ON2/~{FAULT2} (io), 4 GND (power) "Chip Ground", 5 GATE2 (out) "Channel 2 N-channel MOSFET Gate Drive Output.", 6 GATE1 (out) "Channel 1 N-channel MOSFET Gate Drive Output.", 7 SENSE2 (in) "Channel 2 Circuit Breaker Current Sense Input.", 8 SENSE1 (in) "Channel 1 Circuit Breaker Current Sense Input."

## LTC1647-2CS8#PBF
designator U?
Dual Hot Swap Controller, 2.7 to 16.5 V Vin, 8-pin SOIC (S8-8), 0 to 70 degC, Pb-Free; Manufacturer: Linear Technology; PartNumber: LTC1647-2CS8#PBF; Active Limiting: no; Circuit Breaker Accuracy(%): 20; Circuit Breaker Threshold: 50 mV; Circuit Breakers(#): 2; Extended Temp: C, I; Fault: yes; In-Rush Current: Ramp; DatasheetVersion: Rev. A; PackageVersion: Rev. G, 03/2012; PackageReference: S8-8; PackageDescription: 8-Pin Plastic Small Outline (Narrow .150 Inch), Body 4.9 x 3.9 mm, Pitch 1.27 mm; Supplier 1: Digi-Key; Supplier Part Number 1: LTC1647-2CS8#PBF-ND; Fast Comparator: no; Foldback: no; Power Good: no; Reset: no; RoHS: TRUE; Vin Range: 2.7 to 16.5 V; Mounting Technology: Surface Mount; ComponentLink1Description: Manufacturer URL; ComponentLink1URL: http://www.linear.com/; ComponentLink2Description: Datasheet; ComponentLink2URL: http://cds.linear.com/docs/en/datasheet/1647fa.pdf; ComponentLink3Description: Package Specification; ComponentLink3URL: http://cds.linear.com/docs/en/packaging/05081610_G_SO8.pdf
footprint LT-S8-8_N (SOIC, 8-Leads, Body 5x4mm, Pitch 1.27mm, IPC Medium Density)
footprint LT-S8-8_L (SOIC, 8-Leads, Body 5x4mm, Pitch 1.27mm, IPC High Density)
footprint LT-S8-8_M (SOIC, 8-Leads, Body 5x4mm, Pitch 1.27mm, IPC Low Density)
pins: 1 VCC (power) "The Common Positive Supply Input for the LTC1647-2. VCC1 and VCC2 are internally connected together.", 2 ON1/~{FAULT1} (io), 3 ON2/~{FAULT2} (io), 4 GND (power) "Chip Ground", 5 GATE2 (out) "Channel 2 N-channel MOSFET Gate Drive Output.", 6 GATE1 (out) "Channel 1 N-channel MOSFET Gate Drive Output.", 7 SENSE2 (in) "Channel 2 Circuit Breaker Current Sense Input.", 8 SENSE1 (in) "Channel 1 Circuit Breaker Current Sense Input."

## LTC1647-2CS8#TR
designator U?
Dual Hot Swap Controller, 2.7 to 16.5 V Vin, 8-pin SOIC (S8-8), 0 to 70 degC, Tape and Reel; Manufacturer: Linear Technology; PartNumber: LTC1647-2CS8#TR; Active Limiting: no; Circuit Breaker Accuracy(%): 20; Circuit Breaker Threshold: 50 mV; Circuit Breakers(#): 2; Extended Temp: C, I; Fault: yes; In-Rush Current: Ramp; DatasheetVersion: Rev. A; PackageVersion: Rev. G, 03/2012; PackageReference: S8-8; PackageDescription: 8-Pin Plastic Small Outline (Narrow .150 Inch), Body 4.9 x 3.9 mm, Pitch 1.27 mm; Supplier 1: Digi-Key; Supplier Part Number 1: LTC1647-2CS8#TR-ND; Fast Comparator: no; Foldback: no; Packing: Tape and Reel; Power Good: no; Reset: no; RoHS: FALSE; Vin Range: 2.7 to 16.5 V; Mounting Technology: Surface Mount; ComponentLink1Description: Manufacturer URL; ComponentLink1URL: http://www.linear.com/; ComponentLink2Description: Datasheet; ComponentLink2URL: http://cds.linear.com/docs/en/datasheet/1647fa.pdf; ComponentLink3Description: Package Specification; ComponentLink3URL: http://cds.linear.com/docs/en/packaging/05081610_G_SO8.pdf
footprint LT-S8-8_N (SOIC, 8-Leads, Body 5x4mm, Pitch 1.27mm, IPC Medium Density)
footprint LT-S8-8_L (SOIC, 8-Leads, Body 5x4mm, Pitch 1.27mm, IPC High Density)
footprint LT-S8-8_M (SOIC, 8-Leads, Body 5x4mm, Pitch 1.27mm, IPC Low Density)
pins: 1 VCC (power) "The Common Positive Supply Input for the LTC1647-2. VCC1 and VCC2 are internally connected together.", 2 ON1/~{FAULT1} (io), 3 ON2/~{FAULT2} (io), 4 GND (power) "Chip Ground", 5 GATE2 (out) "Channel 2 N-channel MOSFET Gate Drive Output.", 6 GATE1 (out) "Channel 1 N-channel MOSFET Gate Drive Output.", 7 SENSE2 (in) "Channel 2 Circuit Breaker Current Sense Input.", 8 SENSE1 (in) "Channel 1 Circuit Breaker Current Sense Input."